# EAGLE library part CD40109BPWR (library CD40109BPWR)
CMOS Quad low to high Voltage level shifter
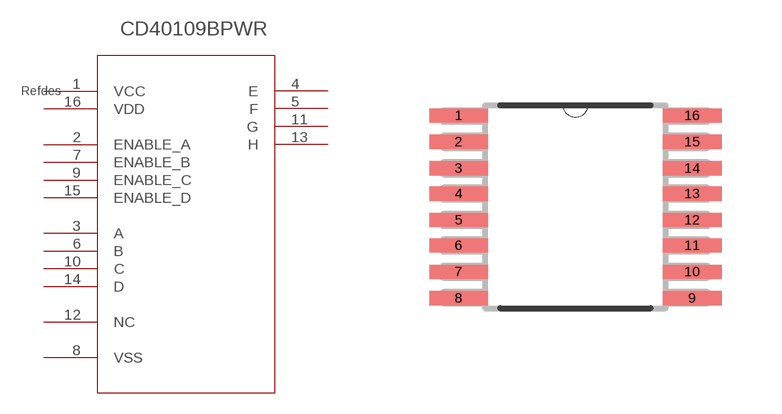
[diagram p0: symbol with the pads of SOP65P640X120-16N; footprint SOP65P640X120-16N]

Designator prefix U

## CD40109BPWR (Description: Voltage Level Translator Unidirectional 4 Circuit 1 Channel 16-TSSOP; Digi-Key_Part_Number: 296-12163-1-ND; Digi-Key_Purchase_URL: https://www.digikey.com/product-detail/en/texas-instruments/CD40109BPWR/296-12163-1-ND/412005?utm_source=snapeda&utm_medium=aggregator&utm_campaign=symbol; MF: Texas Instruments; MP: CD40109BPWR; Package: TSSOP-16 Texas Instruments)  [SOP65P640X120-16N]
1  VCC  pwr
2  ENABLE_A  in
3  A  in
4  E  out
5  F  out
6  B  in
7  ENABLE_B  in
8  VSS  in
9  ENABLE_C  in
10  C  in
11  G  out
12  NC  in
13  H  out
14  D  in
15  ENABLE_D  in
16  VDD  pwr

## Footprint SOP65P640X120-16N (pad centres in mm)
smd 1.473 x 0.356: 1 -2.921,2.286; 2 -2.921,1.626; 3 -2.921,0.965; 4 -2.921,0.33; 5 -2.921,-0.33; 6 -2.921,-0.965; 7 -2.921,-1.626; 8 -2.921,-2.286; 9 2.921,-2.286; 10 2.921,-1.626; 11 2.921,-0.965; 12 2.921,-0.33; 13 2.921,0.33; 14 2.921,0.965; 15 2.921,1.626; 16 2.921,2.286